# EAGLE library part TCA9535_RTW_24 (library bw_motor_driver)
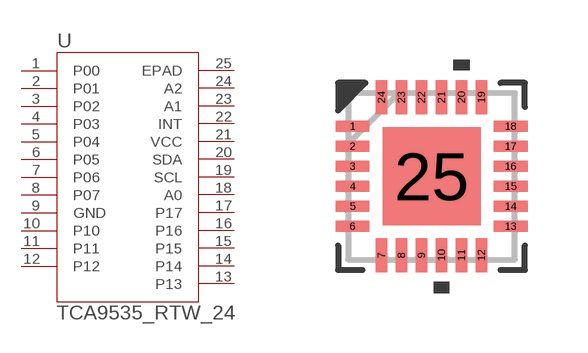
[diagram p1: symbol with the pads of RTW24_2P45X2P45; footprint RTW24_2P45X2P45]

Designator prefix U

## TCA9535_RTW_24 (MANUFACTURER_PART_NUMBER: tca9535_rtw_24; VENDOR: Texas Instruments)  [RTW24_2P45X2P45]
1  P00
2  P01
3  P02
4  P03
5  P04
6  P05
7  P06
8  P07
9  GND  pwr
10  P10
11  P11
12  P12
13  P13
14  P14
15  P15
16  P16
17  P17
18  A0  in
19  SCL
20  SDA
21  VCC  pwr
22  INT  out
23  A1  in
24  A2  in
25  EPAD  pas

## Footprint RTW24_2P45X2P45 (pad centres in mm)
smd 0.85 x 0.28: 1 -1.975,1.25; 2 -1.975,0.75; 3 -1.975,0.25; 4 -1.975,-0.25; 5 -1.975,-0.75; 6 -1.975,-1.25; 13 1.975,-1.25; 14 1.975,-0.75; 15 1.975,-0.25; 16 1.975,0.25; 17 1.975,0.75; 18 1.975,1.25
smd 0.28 x 0.85: 7 -1.25,-1.975; 8 -0.75,-1.975; 9 -0.25,-1.975; 10 0.25,-1.975; 11 0.75,-1.975; 12 1.25,-1.975; 19 1.25,1.975; 20 0.75,1.975; 21 0.25,1.975; 22 -0.25,1.975; 23 -0.75,1.975; 24 -1.25,1.975
smd 2.45 x 2.45: 25 0,0